# Altium footprint library PCB - LEADED - TO - TO-220.PCBLIB: 1 footprints
Each footprint in its own frame and in the unit in brackets; x right, y up, seen from the top. Pads: shape width x height; smd on the part's side, far side on the other; paste and mask are expansions set on the pad; w line width, h text height; cw(c..) or ccw(c..) is an arc to the next point about the centre after c.
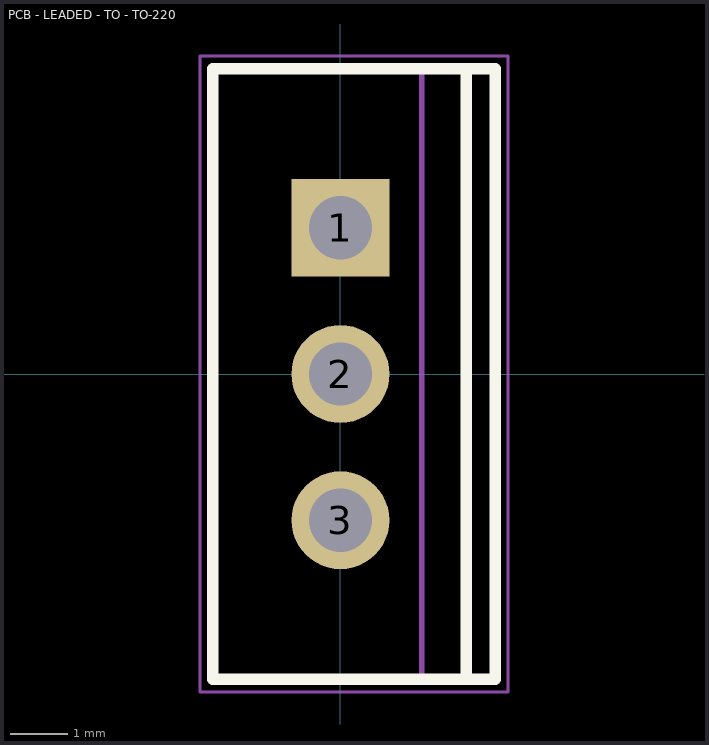
[diagram p0: the footprint, top view; thin cyan lines are the x and y axes]

## PCB - LEADED - TO - TO-220 [mm]
height 19.85
pads (3):
  rect 1.7x1.7 hole 1.1: 1(0,2.54)
  round 1.7 hole 1.1: 2(0,0) 3(0,-2.54)
Top Overlay:
  lines w0.2: 2.185,-5.3 2.185,5.3 ; -2.215,-5.3 -2.215,5.3 2.685,5.3 2.685,-5.3 -2.215,-5.3
Mechanical 13:
  lines w0.1: 1.41,-5.275 1.41,5.275 ; -2.19,-5.275 2.66,-5.275 2.66,5.275 -2.19,5.275 -2.19,-5.275
Mechanical 15:
  lines w0.05: -2.44,-5.525 2.91,-5.525 2.91,5.525 -2.44,5.525 -2.44,-5.525
  lines w0.1: -0.5,0 0.5,0 ; 0,-0.5 0,0.5
3D body: height 19.85, standoff 18.98, extent 1.41,-5.05 2.66,5.05
3D body: height 17.43, standoff 17.05, extent 1.41,-5.05 2.66,-1.925
3D body: height 17.43, standoff 17.05, extent 1.41,1.925 2.66,5.05
3D body: height 17.05, standoff 16.67, extent 1.41,-5.05 2.66,-1.925
3D body: height 17.05, standoff 16.67, extent 1.41,1.925 2.66,5.05
3D body: height 17.79, standoff 17.43, extent 1.41,-5.05 2.66,-1.888
3D body: height 17.79, standoff 17.43, extent 1.41,1.888 2.66,5.05
3D body: height 16.68, standoff 16.31, extent 1.41,-5.05 2.66,-1.888
3D body: height 16.68, standoff 16.31, extent 1.41,1.888 2.66,5.05
3D body: height 18.12, standoff 17.79, extent 1.41,-5.05 2.66,-1.778
3D body: height 18.12, standoff 17.79, extent 1.41,1.778 2.66,5.05
3D body: height 16.32, standoff 15.98, extent 1.41,-5.05 2.66,-1.778
3D body: height 16.32, standoff 15.98, extent 1.41,1.778 2.66,5.05
3D body: height 18.42, standoff 18.12, extent 1.41,-5.05 2.66,-1.601
3D body: height 18.42, standoff 18.12, extent 1.41,1.601 2.66,5.05
3D body: height 15.99, standoff 15.69, extent 1.41,-5.05 2.66,-1.601
3D body: height 15.99, standoff 15.69, extent 1.41,1.601 2.66,5.05
3D body: height 18.66, standoff 18.41, extent 1.41,-5.05 2.66,-1.361
3D body: height 18.66, standoff 18.41, extent 1.41,1.361 2.66,5.05
3D body: height 15.69, standoff 15.45, extent 1.41,-5.05 2.66,-1.361
3D body: height 15.69, standoff 15.45, extent 1.41,1.361 2.66,5.05
3D body: height 18.83, standoff 18.65, extent 1.41,-5.05 2.66,-1.069
3D body: height 18.83, standoff 18.65, extent 1.41,1.069 2.66,5.05
3D body: height 15.45, standoff 15.27, extent 1.41,-5.05 2.66,-1.069
3D body: height 15.45, standoff 15.27, extent 1.41,1.069 2.66,5.05
3D body: height 18.94, standoff 18.83, extent 1.41,-5.05 2.66,-0.737
3D body: height 18.94, standoff 18.83, extent 1.41,0.737 2.66,5.05
3D body: height 15.28, standoff 15.16, extent 1.41,-5.05 2.66,-0.737
3D body: height 15.28, standoff 15.16, extent 1.41,0.737 2.66,5.05
3D body: height 18.98, standoff 18.94, extent 1.41,-5.05 2.66,-0.376
3D body: height 18.98, standoff 18.94, extent 1.41,0.376 2.66,5.05
3D body: height 15.17, standoff 15.13, extent 1.41,-5.05 2.66,-0.376
3D body: height 15.17, standoff 15.13, extent 1.41,0.376 2.66,5.05
3D body: height 15.13, standoff 13.65, extent 1.41,-5.05 2.66,5.05
3D body: height 13.65, standoff 2.8, extent -2.19,-5.275 2.66,5.275
3D body: height 0, standoff -1.6, extent -0.245,-2.94 0.245,-2.14
3D body: height 2.8, standoff 0, extent -0.245,-3.21 0.245,-1.87
3D body: height 0, standoff -1.6, extent -0.245,-0.4 0.245,0.4
3D body: height 2.8, standoff 0, extent -0.245,-0.67 0.245,0.67
3D body: height 0, standoff -1.6, extent -0.245,2.14 0.245,2.94
3D body: height 2.8, standoff 0, extent -0.245,1.87 0.245,3.21